# Altium footprint library PcbLib1.PcbLib: 10 footprints
Each footprint in its own frame and in the unit in brackets; x right, y up, seen from the top. Pads: shape width x height; smd on the part's side, far side on the other; paste and mask are expansions set on the pad; w line width, h text height; cw(c..) or ccw(c..) is an arc to the next point about the centre after c.
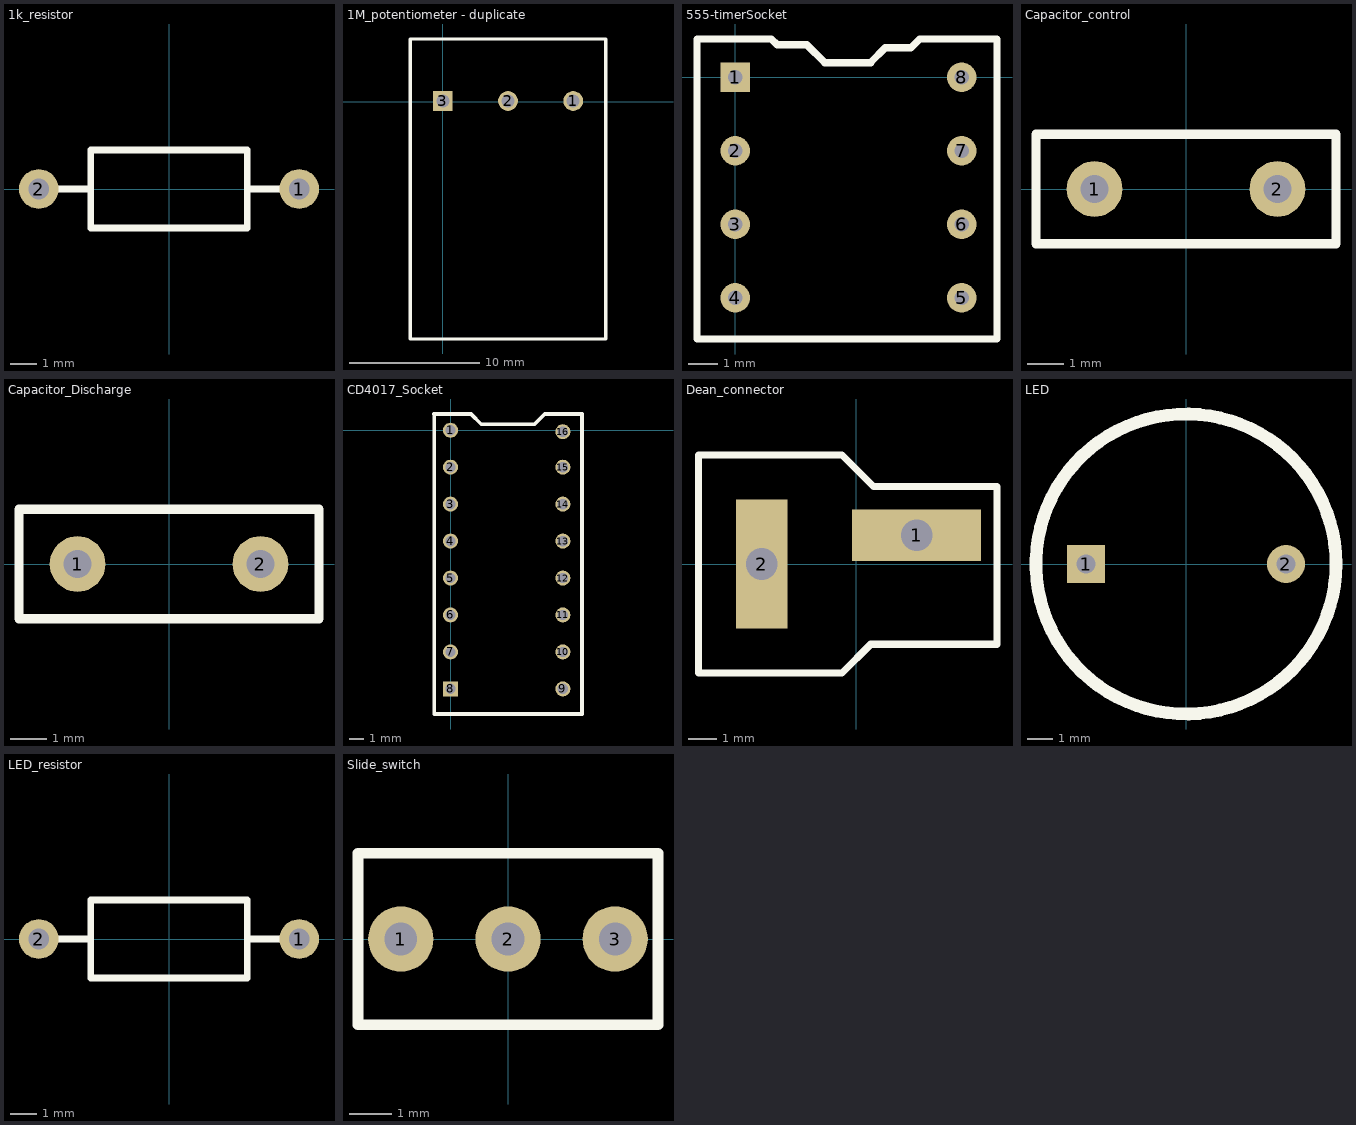
[diagram p0: the footprints below, top view; thin cyan lines are the x and y axes]

## 1k_resistor [mm] "1Kohms"
pads (2):
  round 1.524 hole 0.8: 1(5,0) 2(-5,0)
Top Overlay:
  lines w0.254: -5,0 -3,0 ; 3,0 5,0 ; 3,1.5 -3,1.5 -3,-1.5 3,-1.5 3,1.5 ; 3,1.5 3,1.5

## 1M_potentiometer - duplicate [mm] "1Mohms"
pads (3):
  round 1.524 hole 1: 1(10,0.05) 2(5,0.05)
  rect 1.524x1.524 hole 1: 3(0,0.05)
Top Overlay:
  lines w0.254: -2.5,-18.2 -2.5,4.8 12.5,4.8 12.5,-18.2 -2.5,-18.2

## 555-timerSocket [mm]
pads (8):
  rect 1x1 hole 0.5 square: 1(0,0)
  round 1 hole 0.5: 2(0,-2.5) 3(0,-5) 4(0,-7.5) 5(7.7,-7.5) 6(7.7,-5) 7(7.7,-2.5) 8(7.7,0)
Top Overlay:
  lines w0.254: -1.3,-8.9 -1.3,1.3 1.225,1.3 1.425,1.1 2.437,1.1 3.037,0.5 4.6,0.5 5.1,1 5.975,1 6.275,1.3 8.9,1.3 8.9,-8.9 -1.3,-8.9

## Capacitor_control [mil] "0.1 MicroF"
pads (2):
  round 60 hole 30: 1(-98.43,0) 2(98.43,0)
Top Overlay:
  lines w10: -161.42,-59.06 -161.42,59.06 161.42,59.06 161.42,-59.06 -161.42,-59.06

## Capacitor_Discharge [mil] "3.3 MicroF"
pads (2):
  round 60 hole 30: 1(-98.43,0) 2(98.43,0)
Top Overlay:
  lines w10: -161.42,-59.06 -161.42,59.06 161.42,59.06 161.42,-59.06 -161.42,-59.06

## CD4017_Socket [mm]
pads (16):
  round 1.016 hole 0.7: 1(0,0) 2(0,-2.5) 3(0,-5) 4(0,-7.5) 5(0,-10) 6(0,-12.5) 7(0,-15) 9(7.6,-17.5) 10(7.6,-15) 11(7.6,-12.5) 12(7.6,-10) 13(7.6,-7.5) 14(7.6,-5) 15(7.6,-2.5) 16(7.6,-0.1)
  rect 1.016x1.016 hole 0.7: 8(0,-17.5)
Top Overlay:
  lines w0.254: -1.119,1.1 1.381,1.1 2.081,0.4 5.681,0.4 6.381,1.1 8.881,1.1 ; -1.1,1.1 -1.1,-19.2 8.9,-19.2 8.9,1.1

## Dean_connector [mm]
pads (2):
  rect 4.5x1.8 hole 1.1 square: 1(2.1,1)
  rect 1.8x4.5 hole 1.1 square: 2(-3.3,0)
Top Overlay:
  lines w0.254: -5.5,-3.8 -0.5,-3.8 0.5,-2.8 4.9,-2.8 4.9,2.7 0.6,2.7 -0.5,3.8 -5.5,3.8 -5.5,-3.8

## LED [mil]
pads (2):
  rect 60x60 hole 30 square: 1(-157.48,0)
  round 60 hole 30: 2(157.48,0)
Top Overlay:
  circle w20: c0,0 r236.22

## LED_resistor [mm] "330ohms"
pads (2):
  round 1.524 hole 0.8: 1(5,0) 2(-5,0)
Top Overlay:
  lines w0.254: -5,0 -3,0 ; 3,0 5,0 ; 3,1.5 -3,1.5 -3,-1.5 3,-1.5 3,1.5 ; 3,1.5 3,1.5

## Slide_switch [mil]
pads (3):
  round 60 hole 30: 1(-98.43,0) 2(0,0) 3(98.43,0)
Top Overlay:
  lines w10: -137.8,-78.74 137.8,-78.74 137.8,78.74 -137.8,78.74 -137.8,-78.74